# Altium footprint library 5W_51.5K.PcbLib: 1 footprints
Each footprint in its own frame and in the unit in brackets; x right, y up, seen from the top. Pads: shape width x height; smd on the part's side, far side on the other; paste and mask are expansions set on the pad; w line width, h text height; cw(c..) or ccw(c..) is an arc to the next point about the centre after c.
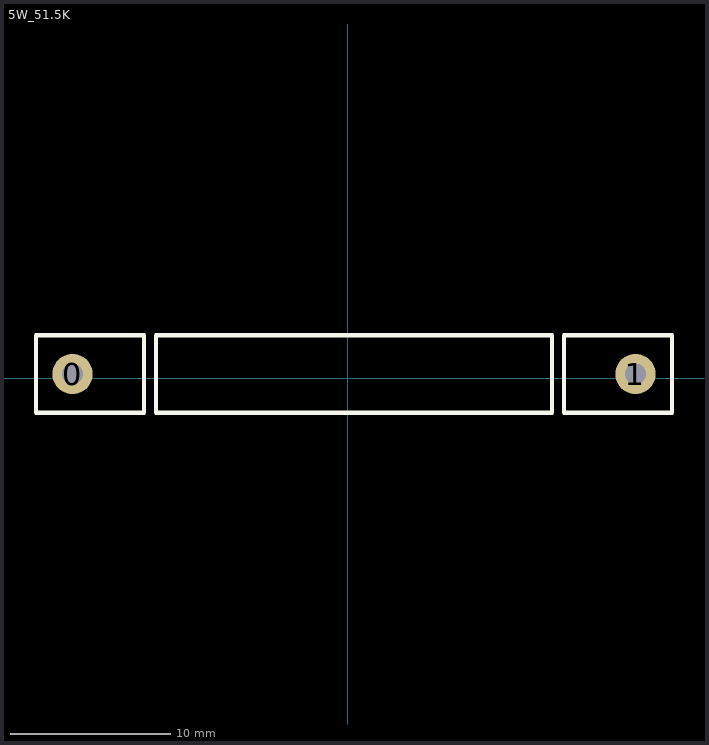
[diagram p0: the footprint, top view; thin cyan lines are the x and y axes]

## 5W_51.5K [mm]
pads (2):
  round 2.5 hole 1.3: 0(-17.145,0.254) 1(17.907,0.254)
Top Overlay:
  lines w0.254: -19.431,-2.159 -12.7,-2.159 -12.7,2.667 -19.431,2.667 -19.431,-2.159 ; -11.938,-2.159 12.7,-2.159 12.7,2.667 -11.938,2.667 -11.938,-2.159 ; 13.462,-2.159 20.193,-2.159 20.193,2.667 13.462,2.667 13.462,-2.159